# EAGLE library part N550 (library N5)
Based on Nordic Semiconductor’s nRF51422 SoC, the N5 ANT SoC module series offers support for both ANT® and Bluetooth® low energy and enables both protocols to run concurrently, depending on the loaded protocol stack. The N5 ANT SoC module series starts with N548M8CB in a 14.0mm x 9.8mm x 2.0mm LGA (Land Array Grid) package. A compact design meeting the market requirements for small, light and wearable, the N548M8CB is a turnkey system hardware solution including antenna, onboard 32k and 16M crystal clocks, DC-DC converter and 24 GPIOs with 6 analogue inputs. The N548 modules are pre-programmed with the following software components:  S210 SoftDevice (ANT 8-channel protocol stack)  ANT network processor application  ANT-WP (Wireless Programming) bootloader (depends on module version) SoftDevices are protocol stack solutions from Nordic Semiconductor for the nRF51 SoCs. There are multiple SoftDevice choices available from the Nordic Semiconductor’s web site. The ANT network processor application offers the standard ANT serial interface front-end that is connectable to an external application controller. The ANT-WP bootloader allows over-the-air updates of any software components on the N548 module. The N548 module pre-programmed image can be easily replaced via the onboard SWD interface pins using offthe- shelf ARM programming tools or over the air using the pre-loaded ANT-WP bootloader. Pin compatible options to the 20mm x 20mm AP2 or C7 modules from Dynastream are also available. In these options, N548M8CB modules are soldered on carrier boards that are pin compatible to the previous modules. Current AP2 or C7 module customers can easily use these models to evaluate the hardware and upgrade their products. The N5 module series if loaded with ANT and/or BLUETOOTH Low energy stack has been certified to comply with radio regulation or standards covering major markets include North America, Europe, Australia, New Zealand and Japan. The N5 ANT SoC modules series has also been qualified by the BLUETOOTH SIG.
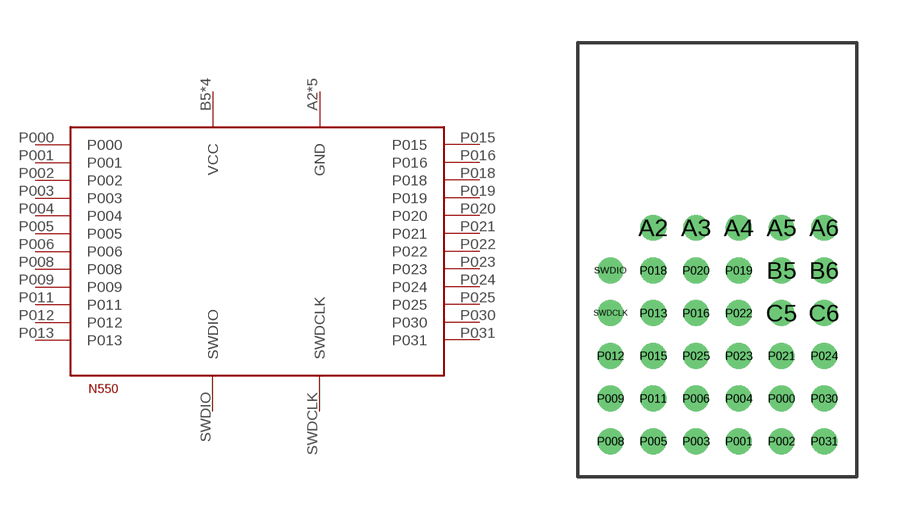
[diagram p0: symbol with the pads of N550; footprint N550]

Designator prefix -

## N550  [N550]
A2  GND
A3  GND
A4  GND
A5  GND
A6  GND
B5  VCC
B6  VCC
C5  VCC
C6  VCC
P000  P000
P001  P001
P002  P002
P003  P003
P004  P004
P005  P005
P006  P006
P008  P008
P009  P009
P011  P011
P012  P012
P013  P013
P015  P015
P016  P016
P018  P018
P019  P019
P020  P020
P021  P021
P022  P022
P023  P023
P024  P024
P025  P025
P030  P030
P031  P031
SWDCLK  SWDCLK
SWDIO  SWDIO

## Footprint N550 (pad centres in mm)
drill 0.4 pad 0.72: A2 1.62,7.5; A3 3.12,7.5; A4 4.62,7.5; A5 6.12,7.5; A6 7.62,7.5; B5 6.12,6; B6 7.62,6; C5 6.12,4.5; C6 7.62,4.5; P000 6.12,1.5; P001 4.62,0; P002 6.12,0; P003 3.12,0; P004 4.62,1.5; P005 1.62,0; P006 3.12,1.5; P008 0.12,0; P009 0.12,1.5; P011 1.62,1.5; P012 0.12,3; P013 1.62,4.5; P015 1.62,3; P016 3.12,4.5; P018 1.62,6; P019 4.62,6; P020 3.12,6; P021 6.12,3; P022 4.62,4.5; P023 4.62,3; P024 7.62,3; P025 3.12,3; P030 7.62,1.5; P031 7.62,0; SWDCLK 0.12,4.5; SWDIO 0.12,6